# Altium schematic symbol library SchlibSensors.SchLib: 13 symbols
Pins are listed as number, name and electrical type; pins without a type are passive.

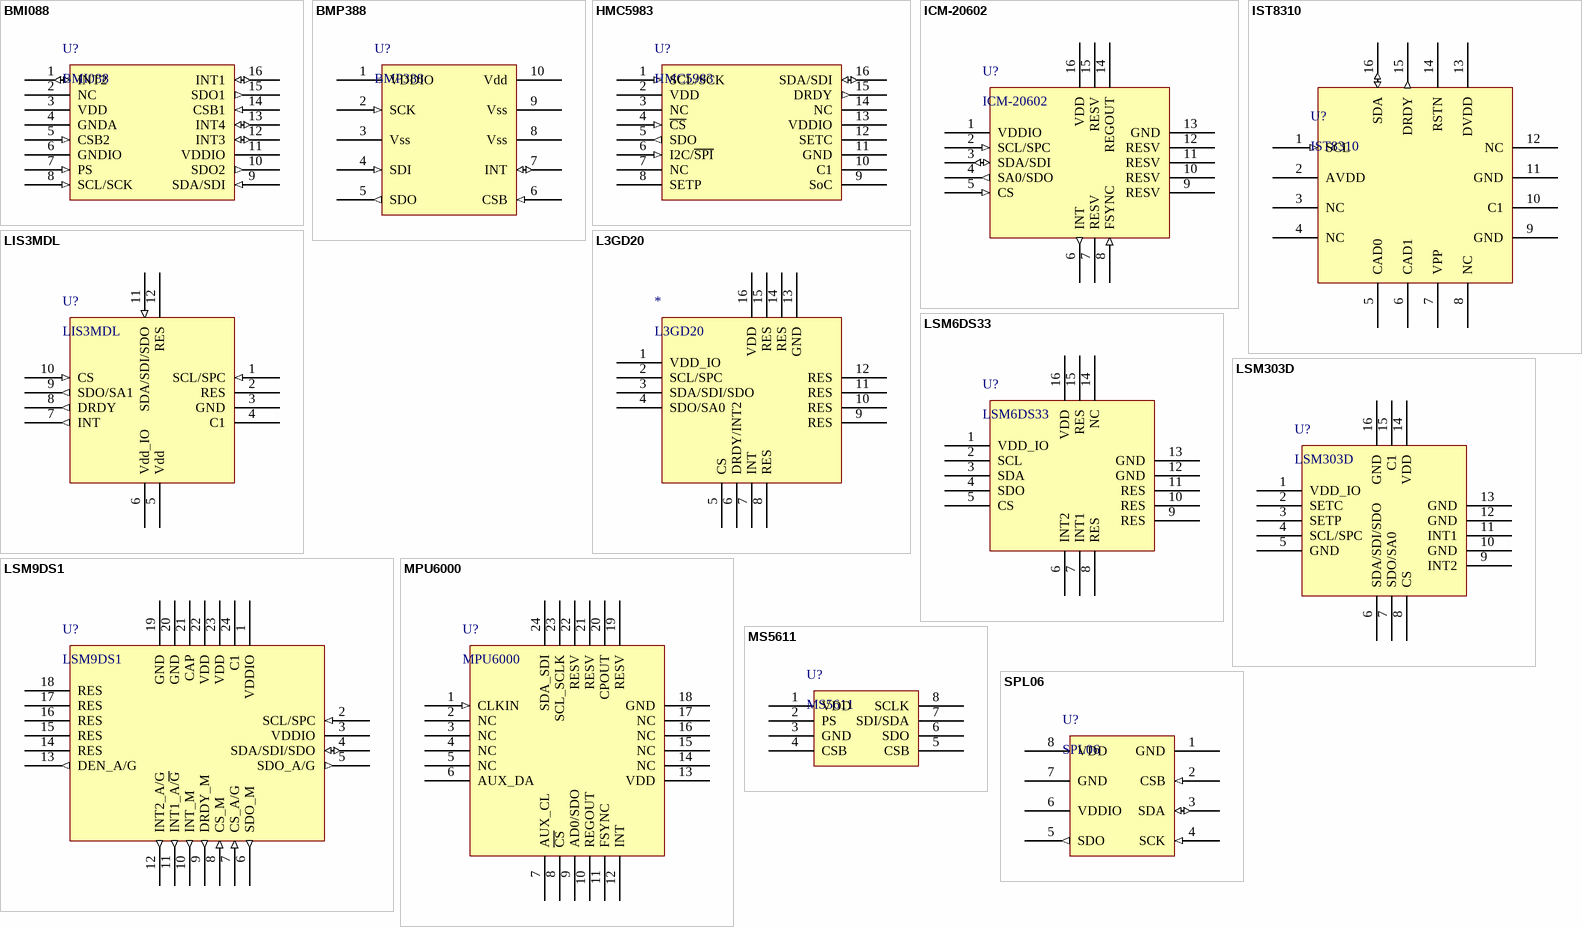
[diagram p0: symbols BMI088 to SPL06]

## BMI088
designator U?
footprint BMI088
pins: 1 INT2 (io), 2 NC, 3 VDD (power), 4 GNDA (power), 5 CSB2 (in), 6 GNDIO (power), 7 PS (in), 8 SCL/SCK (in), 9 SDA/SDI (in), 10 SDO2 (out), 11 VDDIO (power), 12 INT3 (io), 13 INT4 (io), 14 CSB1 (in), 15 SDO1 (out), 16 INT1 (io)

## BMP388
designator U?
footprint BMP388
pins: 1 VDDIO (power), 2 SCK (in), 3 Vss (power), 4 SDI (in), 5 SDO (out), 6 CSB (in), 7 INT (io), 8 Vss (power), 9 Vss (power), 10 Vdd (power)

## HMC5983
designator U?
footprint HMC5983
pins: 1 SCL/SCK (in), 2 VDD (power), 3 NC, 4 ~{CS} (in), 5 SDO (out), 6 I2C/~{SPI} (in), 7 NC, 8 SETP, 9 SoC, 10 C1, 11 GND (power), 12 SETC, 13 VDDIO (power), 14 NC, 15 DRDY (out), 16 SDA/SDI (io)

## ICM-20602
designator U?
High Performance 6-Axis MEMS MotionTracking™ Device
footprint ICM-20602
pins: 1 VDDIO (power), 2 SCL/SPC (in), 3 SDA/SDI (io), 4 SA0/SDO (out), 5 CS (in), 6 INT (out), 7 RESV, 8 FSYNC (in), 9 RESV, 10 RESV, 11 RESV, 12 RESV, 13 GND (power), 14 REGOUT, 15 RESV, 16 VDD (power)

## IST8310
designator U?
footprint HMC5983
pins: 1 SCL (in), 2 AVDD (power), 3 NC, 4 NC, 5 CAD0, 6 CAD1, 7 VPP, 8 NC, 9 GND (power), 10 C1, 11 GND (power), 12 NC, 13 DVDD (power), 14 RSTN, 15 DRDY (out), 16 SDA (io)

## L3GD20
designator *
footprint L3GD20
pins: 1 VDD_IO, 2 SCL/SPC, 3 SDA/SDI/SDO, 4 SDO/SA0, 5 CS, 6 DRDY/INT2, 7 INT, 8 RES, 9 RES, 10 RES, 11 RES, 12 RES, 13 GND, 14 RES, 15 RES, 16 VDD

## LIS3MDL
designator U?
footprint LIS3MDL
pins: 1 SCL/SPC (in), 2 RES, 3 GND (power), 4 C1, 5 Vdd (power), 6 Vdd_IO (power), 7 INT (out), 8 DRDY (out), 9 SDO/SA1 (out), 10 CS (in), 11 SDA/SDI/SDO (in), 12 RES

## LSM6DS33
designator U?
footprint LSM6DS33
pins: 1 VDD_IO (power), 2 SCL, 3 SDA, 4 SDO, 5 CS, 6 INT2, 7 INT1, 8 RES, 9 RES, 10 RES, 11 RES, 12 GND (power), 13 GND (power), 14 NC, 15 RES, 16 VDD (power)

## LSM9DS1
designator U?
3D accelerometer, 3D gyroscope, 3D magnetometer
footprint LSM9DS1
pins: 1 VDDIO (power), 2 SCL/SPC (in), 3 VDDIO (power), 4 SDA/SDI/SDO (io), 5 SDO_A/G (out), 6 SDO_M (out), 7 CS_A/G (in), 8 CS_M (in), 9 DRDY_M (out), 10 INT_M (out), 11 INT1_A/~{G} (out), 12 INT2_A/G (out), 13 DEN_A/G (out), 14 RES, 15 RES, 16 RES, 17 RES, 18 RES, 19 GND (power), 20 GND (power), 21 CAP, 22 VDD (power), 23 VDD (power), 24 C1

## LSM303D
designator U?
footprint LSM303D
pins: 1 VDD_IO, 2 SETC, 3 SETP, 4 SCL/SPC, 5 GND, 6 SDA/SDI/SDO, 7 SDO/SA0, 8 CS, 9 INT2, 10 GND, 11 INT1, 12 GND, 13 GND, 14 VDD, 15 C1, 16 GND

## MPU6000
designator U?
footprint MPU6000
pins: 1 CLKIN (in), 2 NC, 3 NC, 4 NC, 5 NC, 6 AUX_DA, 7 AUX_CL, 8 ~{CS}, 9 AD0/SDO, 10 REGOUT, 11 FSYNC, 12 INT, 13 VDD (power), 14 NC, 15 NC, 16 NC, 17 NC, 18 GND (power), 19 RESV, 20 CPOUT, 21 RESV, 22 RESV, 23 SCL_SCLK, 24 SDA_SDI

## MS5611
designator U?
footprint MS5611
pins: 1 VDD, 2 PS, 3 GND, 4 CSB, 5 CSB, 6 SDO, 7 SDI/SDA, 8 SCLK

## SPL06
designator U?
footprint SPL06
pins: 1 GND (power), 2 CSB (in), 3 SDA (io), 4 SCK (in), 5 SDO (out), 6 VDDIO (power), 7 GND (power), 8 VDD (power)